# Altium footprint library breath detector.PcbLib: 8 footprints
Each footprint in its own frame and in the unit in brackets; x right, y up, seen from the top. Pads: shape width x height; smd on the part's side, far side on the other; paste and mask are expansions set on the pad; w line width, h text height; cw(c..) or ccw(c..) is an arc to the next point about the centre after c.
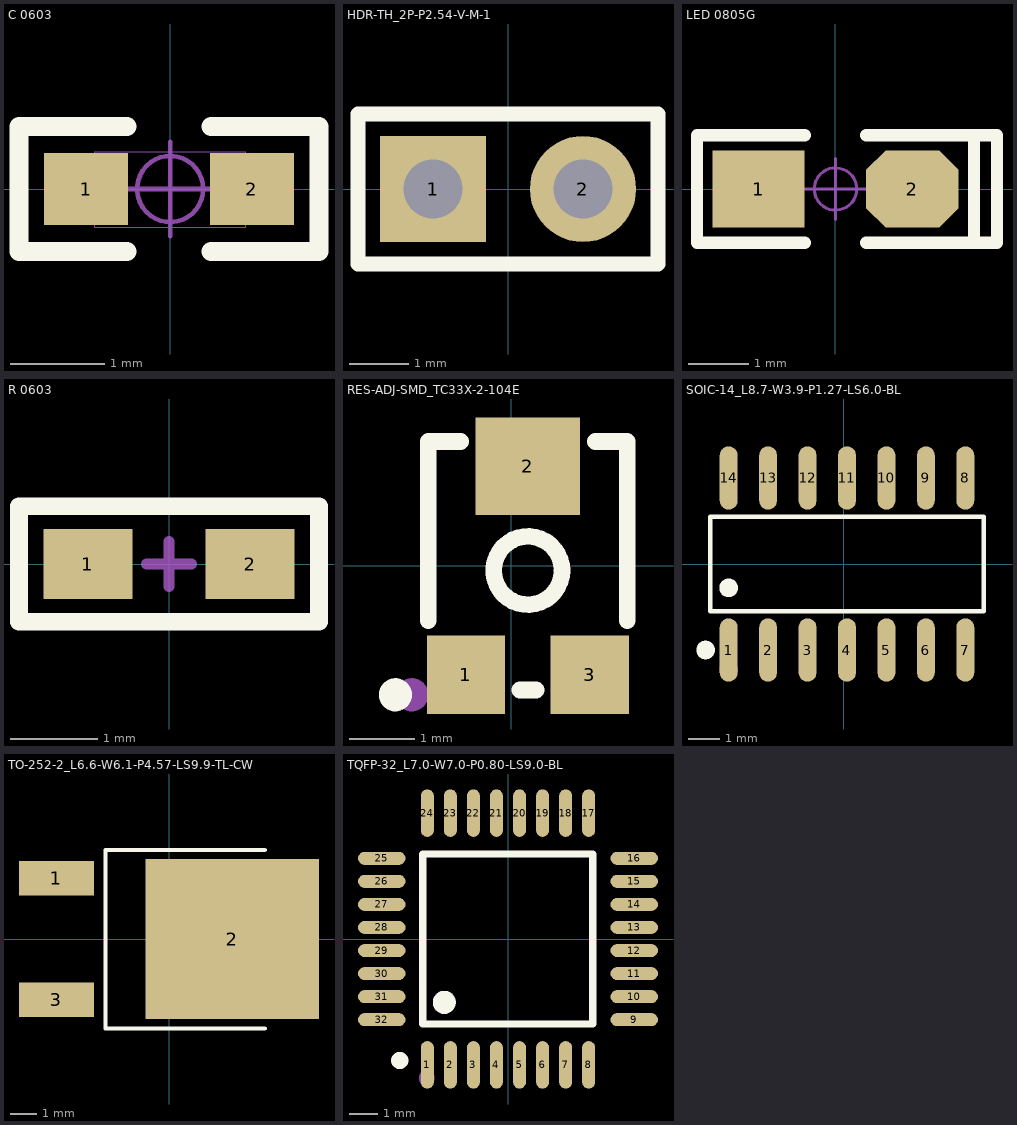
[diagram p0: the footprints below, top view; thin cyan lines are the x and y axes]

## C 0603 [mil] "无极性贴片电容"
pads (2):
  rect 35x30 smd: 1(-35,0) 2(34,0)
Top Overlay:
  lines w8: -18,-26 -63,-26 -63,26 -18,26 ; 17,-26 62,-26 62,26 17,26
Mechanical 13:
  lines w0.39: -31.5,-16 -31.5,15.5 31.5,15.5 31.5,-16 -31.5,-16
Mechanical 15:
  circle w1.97: c0,0 r13.78
  lines w1.97: -19.68,0 19.68,0 ; 0,-19.68 0,19.68
3D body "C 0603.STEP": height 31.89, standoff -0.39, extent -31.5,-16.14 31.5,16.14

## HDR-TH_2P-P2.54-V-M-1 [mm]
pads (2):
  rect 1.8x1.8 hole 1 paste+0 mask+0.051: 1(-1.27,0)
  round 1.8 hole 1 paste+0 mask+0.051: 2(1.27,0)
Top Overlay:
  lines w0.254: -2.54,-1.27 -2.54,1.27 2.54,1.27 2.54,-1.27 -2.54,-1.27

## LED 0805G [mil] "绿色0805LED"
pads (2):
  rect 60x50 smd: 1(-50,0)
  oct 60x50 smd: 2(50,0)
Top Overlay:
  lines w8: -20,-35 -90,-35 -90,35 -20,35 ; 20,-35 105,-35 105,35 20,35 ; 90,-35 90,35
Mechanical 15:
  circle w1.97: c0,0 r13.78
  lines w1.97: -19.68,0 19.68,0 ; 0,-19.68 0,19.68
3D body "LED 0805玻璃罩.STEP": height 31.69, standoff 12.01, extent -29.49,-24.65 29.49,24.65
3D body "LED 0805-G.STEP": height 26.33, standoff -0.16, extent -39.37,-24.65 39.37,24.65

## R 0603 [mil] "1/10W贴片电阻"
pads (2):
  rect 40x31.5 smd: 1(-36.5,0) 2(36.5,0)
Top Overlay:
  lines w8: -67.5,-26 67.5,-26 67.5,26 -67.5,26 -67.5,-26
Mechanical 15:
  lines w5: -10,0 10,0 ; 0,-10 0,10
3D body "R 0603.STEP": height 15.79, standoff -0.13, extent -31.5,-15.75 31.5,15.75

## RES-ADJ-SMD_TC33X-2-104E [mm]
pads (3):
  rect 1.2x1.2 smd paste+0 mask+0.051: 1(-0.696,-1.675) 3(1.204,-1.675)
  rect 1.6x1.5 smd paste+0 mask+0.051: 2(0.254,1.525)
Top Overlay:
  circle w0.254: c-1.778,-1.98 r0.127
  circle w0.254: c0.254,-0.075 r0.524
  lines w0.254: -1.27,-0.844 -1.27,1.903 -0.777,1.903 ; 0.127,-1.907 0.381,-1.907 ; 1.285,1.903 1.778,1.903 1.778,-0.844
Mechanical 15:
  circle w0.254: c-1.524,-1.98 r0.127

## SOIC-14_L8.7-W3.9-P1.27-LS6.0-BL [mm]
pads (14):
  oval 0.574x2.038 smd paste+0 mask+0.051: 1(-3.699,-2.769) 2(-2.429,-2.769) 3(-1.159,-2.769) 4(0.111,-2.769) 5(1.381,-2.769) 6(2.651,-2.769) 7(3.921,-2.769) 8(3.921,2.769) 9(2.651,2.769) 10(1.381,2.769) 11(0.111,2.769) 12(-1.159,2.769) 13(-2.429,2.769) 14(-3.699,2.769)
Top Overlay:
  circle w0.3: c-3.699,-0.769 r0.15
  circle w0.3: c-4.438,-2.769 r0.15
  lines w0.152: -4.29,-1.521 -4.29,1.521 4.512,1.521 4.512,-1.521 -4.29,-1.521
Mechanical 15:
  circle w0.3: c-3.699,-3.4 r0.15

## TO-252-2_L6.6-W6.1-P4.57-LS9.9-TL-CW [mm]
pads (3):
  rect 2.8x1.3 smd paste+0 mask+0.051: 1(-4.217,2.279) 3(-4.217,-2.266)
  rect 6.5x6 smd paste+0 mask+0.051: 2(2.367,0.007)
Top Overlay:
  lines w0.152: 3.586,-3.346 -2.381,-3.346 -2.381,3.346 3.586,3.346
Mechanical 15:
  circle w0.6: c-4.887,2.293 r0.3

## TQFP-32_L7.0-W7.0-P0.80-LS9.0-BL [mm]
pads (32):
  oval 0.45x1.65 smd paste+0 mask+0.051: 1(-2.8,-4.369) 2(-2,-4.369) 3(-1.2,-4.369) 4(-0.4,-4.369) 5(0.4,-4.369) 6(1.2,-4.369) 7(2,-4.369) 8(2.8,-4.369) 17(2.8,4.369) 18(2,4.369) 19(1.2,4.369) 20(0.4,4.369) 21(-0.4,4.369) 22(-1.2,4.369) 23(-2,4.369) 24(-2.8,4.369)
  oval 1.65x0.45 smd paste+0 mask+0.051: 9(4.381,-2.8) 10(4.381,-2) 11(4.381,-1.2) 12(4.381,-0.4) 13(4.381,0.4) 14(4.381,1.2) 15(4.381,2) 16(4.381,2.8) 25(-4.381,2.8) 26(-4.381,2) 27(-4.381,1.2) 28(-4.381,0.4) 29(-4.381,-0.4) 30(-4.381,-1.2) 31(-4.381,-2) 32(-4.381,-2.8)
Top Overlay:
  lines w0.254: -2.963,-2.95 -2.963,2.95 2.937,2.95 2.937,-2.95 -2.963,-2.95
  lines w0.3: -3.759,-4.064 ccw(c-3.758,-4.214) -3.757,-4.064
  lines w0.4: -2.212,-1.999 ccw(c-2.211,-2.199) -2.21,-1.999
Mechanical 15:
  circle w0.254: c-2.819,-4.826 r0.127
  lines w0.254: -2.967,-4.826 cw(c-2.819,-4.826) -2.671,-4.826 cw(c-2.819,-4.826) -2.967,-4.826